# Altium schematic symbol library Real-Time Clocks (RTCs).SchLib: 548 symbols (part 2 of 13)
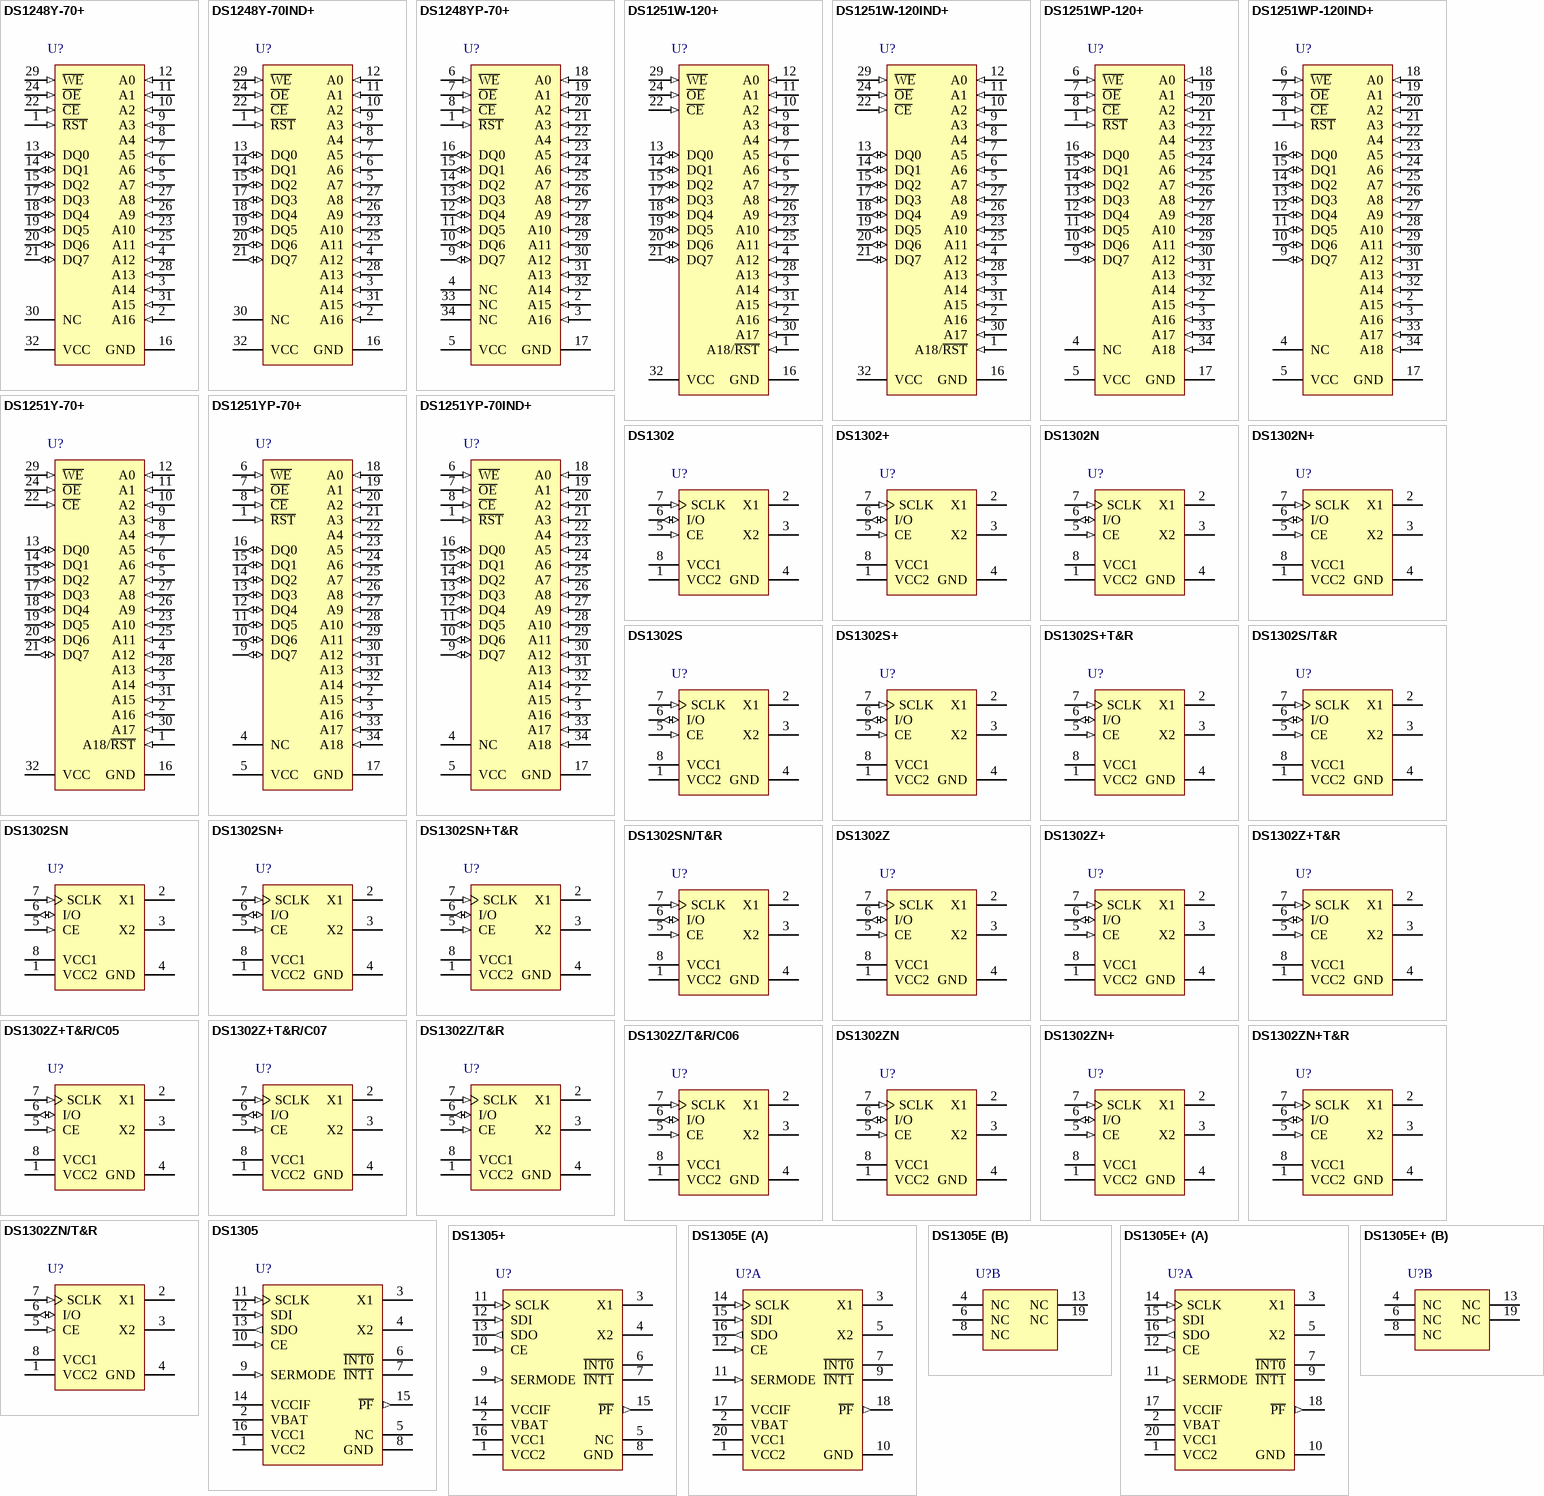
[diagram p22: symbols DS1248Y-70+ to DS1305E+]

## DS1302Z+T&R/C07
designator U?
Trickle-Charge Timekeeping Chip, 8-Pin SO, 0 to 70 degC, Pb-Free, Reel; DatasheetVersion: 12-Feb-2008; PackageVersion: revC, 2010; PackageReference: S8+2; PackageDescription: 8-Pin Small-Outline IC, Narrow (0.15in), 1.27 mm Pitch, SOIC (N), Pb-Free; Code_JEDEC: MS-012-AA; Code_IPC: SOIC127P600-8; ComponentLink1Description: Manufacturer URL; ComponentLink1URL: http://www.maxim-ic.com; ComponentLink2Description: Datasheet; ComponentLink2URL: http://datasheets.maxim-ic.com/en/ds/DS1302.pdf; ComponentLink3Description: Package Specification; ComponentLink3URL: http://pdfserv.maxim-ic.com/package_dwgs/21-0041.PDF
footprint S8+2_N (SOIC, 8-Leads, Body 4.9x3.9mm, Pitch 1.27mm, IPC Medium Density)
footprint S8+2_L (SOIC, 8-Leads, Body 4.9x3.9mm, Pitch 1.27mm, IPC High Density)
footprint S8+2_M (SOIC, 8-Leads, Body 4.9x3.9mm, Pitch 1.27mm, IPC Low Density)
pins: 1 VCC2 (power), 2 X1, 3 X2, 4 GND (power), 5 CE (in), 6 I/O (io), 7 SCLK (in), 8 VCC1 (power)

## DS1302Z/T&R
designator U?
Trickle-Charge Timekeeping Chip, 8-Pin SO, 0 to 70 degC, Reel; DatasheetVersion: 12-Feb-2008; PackageVersion: revC, 2010; PackageReference: S8-2; PackageDescription: 8-Pin Small-Outline IC, Narrow (0.15in), 1.27 mm Pitch, SOIC (N); Code_JEDEC: MS-012-AA; Code_IPC: SOIC127P600-8; ComponentLink1Description: Manufacturer URL; ComponentLink1URL: http://www.maxim-ic.com; ComponentLink2Description: Datasheet; ComponentLink2URL: http://datasheets.maxim-ic.com/en/ds/DS1302.pdf; ComponentLink3Description: Package Specification; ComponentLink3URL: http://pdfserv.maxim-ic.com/package_dwgs/21-0041.PDF
footprint S8-2_N (SOIC, 8-Leads, Body 4.9x3.9mm, Pitch 1.27mm, IPC Medium Density)
footprint S8-2_L (SOIC, 8-Leads, Body 4.9x3.9mm, Pitch 1.27mm, IPC High Density)
footprint S8-2_M (SOIC, 8-Leads, Body 4.9x3.9mm, Pitch 1.27mm, IPC Low Density)
pins: 1 VCC2 (power), 2 X1, 3 X2, 4 GND (power), 5 CE (in), 6 I/O (io), 7 SCLK (in), 8 VCC1 (power)

## DS1302Z/T&R/C06
designator U?
Trickle-Charge Timekeeping Chip, 8-Pin SO, 0 to 70 degC, Reel; DatasheetVersion: 12-Feb-2008; PackageVersion: revC, 2010; PackageReference: S8-2; PackageDescription: 8-Pin Small-Outline IC, Narrow (0.15in), 1.27 mm Pitch, SOIC (N); Code_JEDEC: MS-012-AA; Code_IPC: SOIC127P600-8; ComponentLink1Description: Manufacturer URL; ComponentLink1URL: http://www.maxim-ic.com; ComponentLink2Description: Datasheet; ComponentLink2URL: http://datasheets.maxim-ic.com/en/ds/DS1302.pdf; ComponentLink3Description: Package Specification; ComponentLink3URL: http://pdfserv.maxim-ic.com/package_dwgs/21-0041.PDF
footprint S8-2_N (SOIC, 8-Leads, Body 4.9x3.9mm, Pitch 1.27mm, IPC Medium Density)
footprint S8-2_L (SOIC, 8-Leads, Body 4.9x3.9mm, Pitch 1.27mm, IPC High Density)
footprint S8-2_M (SOIC, 8-Leads, Body 4.9x3.9mm, Pitch 1.27mm, IPC Low Density)
pins: 1 VCC2 (power), 2 X1, 3 X2, 4 GND (power), 5 CE (in), 6 I/O (io), 7 SCLK (in), 8 VCC1 (power)

## DS1302ZN
designator U?
Trickle-Charge Timekeeping Chip, 8-Pin SO, -40 to 85 degC; DatasheetVersion: 12-Feb-2008; PackageVersion: revC, 2010; PackageReference: S8-2; PackageDescription: 8-Pin Small-Outline IC, Narrow (0.15in), 1.27 mm Pitch, SOIC (N); Code_JEDEC: MS-012-AA; Code_IPC: SOIC127P600-8; ComponentLink1Description: Manufacturer URL; ComponentLink1URL: http://www.maxim-ic.com; ComponentLink2Description: Datasheet; ComponentLink2URL: http://datasheets.maxim-ic.com/en/ds/DS1302.pdf; ComponentLink3Description: Package Specification; ComponentLink3URL: http://pdfserv.maxim-ic.com/package_dwgs/21-0041.PDF
footprint S8-2_N (SOIC, 8-Leads, Body 4.9x3.9mm, Pitch 1.27mm, IPC Medium Density)
footprint S8-2_L (SOIC, 8-Leads, Body 4.9x3.9mm, Pitch 1.27mm, IPC High Density)
footprint S8-2_M (SOIC, 8-Leads, Body 4.9x3.9mm, Pitch 1.27mm, IPC Low Density)
pins: 1 VCC2 (power), 2 X1, 3 X2, 4 GND (power), 5 CE (in), 6 I/O (io), 7 SCLK (in), 8 VCC1 (power)

## DS1302ZN+
designator U?
Trickle-Charge Timekeeping Chip, 8-Pin SO, -40 to 85 degC, Pb-Free; DatasheetVersion: 12-Feb-2008; PackageVersion: revC, 2010; PackageReference: S8+2; PackageDescription: 8-Pin Small-Outline IC, Narrow (0.15in), 1.27 mm Pitch, SOIC (N), Pb-Free; Code_JEDEC: MS-012-AA; Code_IPC: SOIC127P600-8; ComponentLink1Description: Manufacturer URL; ComponentLink1URL: http://www.maxim-ic.com; ComponentLink2Description: Datasheet; ComponentLink2URL: http://datasheets.maxim-ic.com/en/ds/DS1302.pdf; ComponentLink3Description: Package Specification; ComponentLink3URL: http://pdfserv.maxim-ic.com/package_dwgs/21-0041.PDF
footprint S8+2_N (SOIC, 8-Leads, Body 4.9x3.9mm, Pitch 1.27mm, IPC Medium Density)
footprint S8+2_L (SOIC, 8-Leads, Body 4.9x3.9mm, Pitch 1.27mm, IPC High Density)
footprint S8+2_M (SOIC, 8-Leads, Body 4.9x3.9mm, Pitch 1.27mm, IPC Low Density)
pins: 1 VCC2 (power), 2 X1, 3 X2, 4 GND (power), 5 CE (in), 6 I/O (io), 7 SCLK (in), 8 VCC1 (power)

## DS1302ZN+T&R
designator U?
Trickle-Charge Timekeeping Chip, 8-Pin SO, -40 to 85 degC, Pb-Free, Reel; DatasheetVersion: 12-Feb-2008; PackageVersion: revC, 2010; PackageReference: S8+2; PackageDescription: 8-Pin Small-Outline IC, Narrow (0.15in), 1.27 mm Pitch, SOIC (N), Pb-Free; Code_JEDEC: MS-012-AA; Code_IPC: SOIC127P600-8; ComponentLink1Description: Manufacturer URL; ComponentLink1URL: http://www.maxim-ic.com; ComponentLink2Description: Datasheet; ComponentLink2URL: http://datasheets.maxim-ic.com/en/ds/DS1302.pdf; ComponentLink3Description: Package Specification; ComponentLink3URL: http://pdfserv.maxim-ic.com/package_dwgs/21-0041.PDF
footprint S8+2_N (SOIC, 8-Leads, Body 4.9x3.9mm, Pitch 1.27mm, IPC Medium Density)
footprint S8+2_L (SOIC, 8-Leads, Body 4.9x3.9mm, Pitch 1.27mm, IPC High Density)
footprint S8+2_M (SOIC, 8-Leads, Body 4.9x3.9mm, Pitch 1.27mm, IPC Low Density)
pins: 1 VCC2 (power), 2 X1, 3 X2, 4 GND (power), 5 CE (in), 6 I/O (io), 7 SCLK (in), 8 VCC1 (power)

## DS1302ZN/T&R
designator U?
Trickle-Charge Timekeeping Chip, 8-Pin SO, -40 to 85 degC, Reel; DatasheetVersion: 12-Feb-2008; PackageVersion: revC, 2010; PackageReference: S8-2; PackageDescription: 8-Pin Small-Outline IC, Narrow (0.15in), 1.27 mm Pitch, SOIC (N); Code_JEDEC: MS-012-AA; Code_IPC: SOIC127P600-8; ComponentLink1Description: Manufacturer URL; ComponentLink1URL: http://www.maxim-ic.com; ComponentLink2Description: Datasheet; ComponentLink2URL: http://datasheets.maxim-ic.com/en/ds/DS1302.pdf; ComponentLink3Description: Package Specification; ComponentLink3URL: http://pdfserv.maxim-ic.com/package_dwgs/21-0041.PDF
footprint S8-2_N (SOIC, 8-Leads, Body 4.9x3.9mm, Pitch 1.27mm, IPC Medium Density)
footprint S8-2_L (SOIC, 8-Leads, Body 4.9x3.9mm, Pitch 1.27mm, IPC High Density)
footprint S8-2_M (SOIC, 8-Leads, Body 4.9x3.9mm, Pitch 1.27mm, IPC Low Density)
pins: 1 VCC2 (power), 2 X1, 3 X2, 4 GND (power), 5 CE (in), 6 I/O (io), 7 SCLK (in), 8 VCC1 (power)

## DS1305
designator U?
Serial Alarm Real-Time Clock, 16-Pin PDIP, 0 to 70 degC; DatasheetVersion: Dec-2009; PackageVersion: revE, 2011; PackageReference: P16-1; PackageDescription: 16-Pin Plastic Dual-In-Line, Narrow (0.3in), Pitch 2.54 mm, PDIP(N); Code_JEDEC: MS-001-AA; ComponentLink1Description: Manufacturer URL; ComponentLink1URL: http://www.maxim-ic.com; ComponentLink2Description: Datasheet; ComponentLink2URL: http://datasheets.maxim-ic.com/en/ds/DS1305.pdf; ComponentLink3Description: Package Specification; ComponentLink3URL: http://pdfserv.maxim-ic.com/package_dwgs/21-0043.PDF
footprint P16-1 (DIP, 16-Leads, Row Spacing 7.62mm, Pitch 2.54mm, Body 19.2x7mm)
pins: 1 VCC2 (power), 2 VBAT (power), 3 X1, 4 X2, 5 NC, 6 ~{INT0} (oc), 7 ~{INT1} (oc), 8 GND (power), 9 SERMODE (in), 10 CE (in), 11 SCLK (in), 12 SDI (in), 13 SDO (out), 14 VCCIF (power), 15 ~{PF} (out), 16 VCC1 (power)

## DS1305+
designator U?
Serial Alarm Real-Time Clock, 16-Pin PDIP, 0 to 70 degC, Pb-Free; DatasheetVersion: Dec-2009; PackageVersion: revE, 2011; PackageReference: P16+1; PackageDescription: 16-Pin Plastic Dual-In-Line, Narrow (0.3in), Pitch 2.54 mm, PDIP(N), Pb-Free; Code_JEDEC: MS-001-AA; ComponentLink1Description: Manufacturer URL; ComponentLink1URL: http://www.maxim-ic.com; ComponentLink2Description: Datasheet; ComponentLink2URL: http://datasheets.maxim-ic.com/en/ds/DS1305.pdf; ComponentLink3Description: Package Specification; ComponentLink3URL: http://pdfserv.maxim-ic.com/package_dwgs/21-0043.PDF
footprint P16+1 (DIP, 16-Leads, Row Spacing 7.62mm, Pitch 2.54mm, Body 19.2x7mm)
pins: 1 VCC2 (power), 2 VBAT (power), 3 X1, 4 X2, 5 NC, 6 ~{INT0} (oc), 7 ~{INT1} (oc), 8 GND (power), 9 SERMODE (in), 10 CE (in), 11 SCLK (in), 12 SDI (in), 13 SDO (out), 14 VCCIF (power), 15 ~{PF} (out), 16 VCC1 (power)

## DS1305E
designator U?
Serial Alarm Real-Time Clock, 20-Pin TSSOP, 0 to 70 degC; DatasheetVersion: Dec-2009; PackageVersion: revL, 2010; PackageReference: U20-1; PackageDescription: 20-Pin Thin Shrink Small-Outline Package, 4.4 mm Body, TSSOP; Code_JEDEC: MO-153-AC; ComponentLink1Description: Manufacturer URL; ComponentLink1URL: http://www.maxim-ic.com; ComponentLink2Description: Datasheet; ComponentLink2URL: http://datasheets.maxim-ic.com/en/ds/DS1305.pdf; ComponentLink3Description: Package Specification; ComponentLink3URL: http://pdfserv.maxim-ic.com/package_dwgs/21-0066.PDF
footprint U20-1_N (TSOP, 20-Leads, Body 6.5x4.4mm, Pitch 0.65mm, IPC Medium Density)
footprint U20-1_L (TSOP, 20-Leads, Body 6.5x4.4mm, Pitch 0.65mm, IPC High Density)
footprint U20-1_M (TSOP, 20-Leads, Body 6.5x4.4mm, Pitch 0.65mm, IPC Low Density)
part A pins: 1 VCC2 (power), 2 VBAT (power), 3 X1, 5 X2, 7 ~{INT0} (oc), 9 ~{INT1} (oc), 10 GND (power), 11 SERMODE (in), 12 CE (in), 14 SCLK (in), 15 SDI (in), 16 SDO (out), 17 VCCIF (power), 18 ~{PF} (out), 20 VCC1 (power)
part B pins: 4 NC, 6 NC, 8 NC, 13 NC, 19 NC

## DS1305E+
designator U?
Serial Alarm Real-Time Clock, 20-Pin TSSOP, 0 to 70 degC, Pb-Free; DatasheetVersion: Dec-2009; PackageVersion: revL, 2010; PackageReference: U20+1; PackageDescription: 20-Pin Thin Shrink Small-Outline Package, 4.4 mm Body, TSSOP, Pb-Free; Code_JEDEC: MO-153-AC; ComponentLink1Description: Manufacturer URL; ComponentLink1URL: http://www.maxim-ic.com; ComponentLink2Description: Datasheet; ComponentLink2URL: http://datasheets.maxim-ic.com/en/ds/DS1305.pdf; ComponentLink3Description: Package Specification; ComponentLink3URL: http://pdfserv.maxim-ic.com/package_dwgs/21-0066.PDF
footprint U20+1_N (TSOP, 20-Leads, Body 6.5x4.4mm, Pitch 0.65mm, IPC Medium Density)
footprint U20+1_L (TSOP, 20-Leads, Body 6.5x4.4mm, Pitch 0.65mm, IPC High Density)
footprint U20+1_M (TSOP, 20-Leads, Body 6.5x4.4mm, Pitch 0.65mm, IPC Low Density)
part A pins: 1 VCC2 (power), 2 VBAT (power), 3 X1, 5 X2, 7 ~{INT0} (oc), 9 ~{INT1} (oc), 10 GND (power), 11 SERMODE (in), 12 CE (in), 14 SCLK (in), 15 SDI (in), 16 SDO (out), 17 VCCIF (power), 18 ~{PF} (out), 20 VCC1 (power)
part B pins: 4 NC, 6 NC, 8 NC, 13 NC, 19 NC

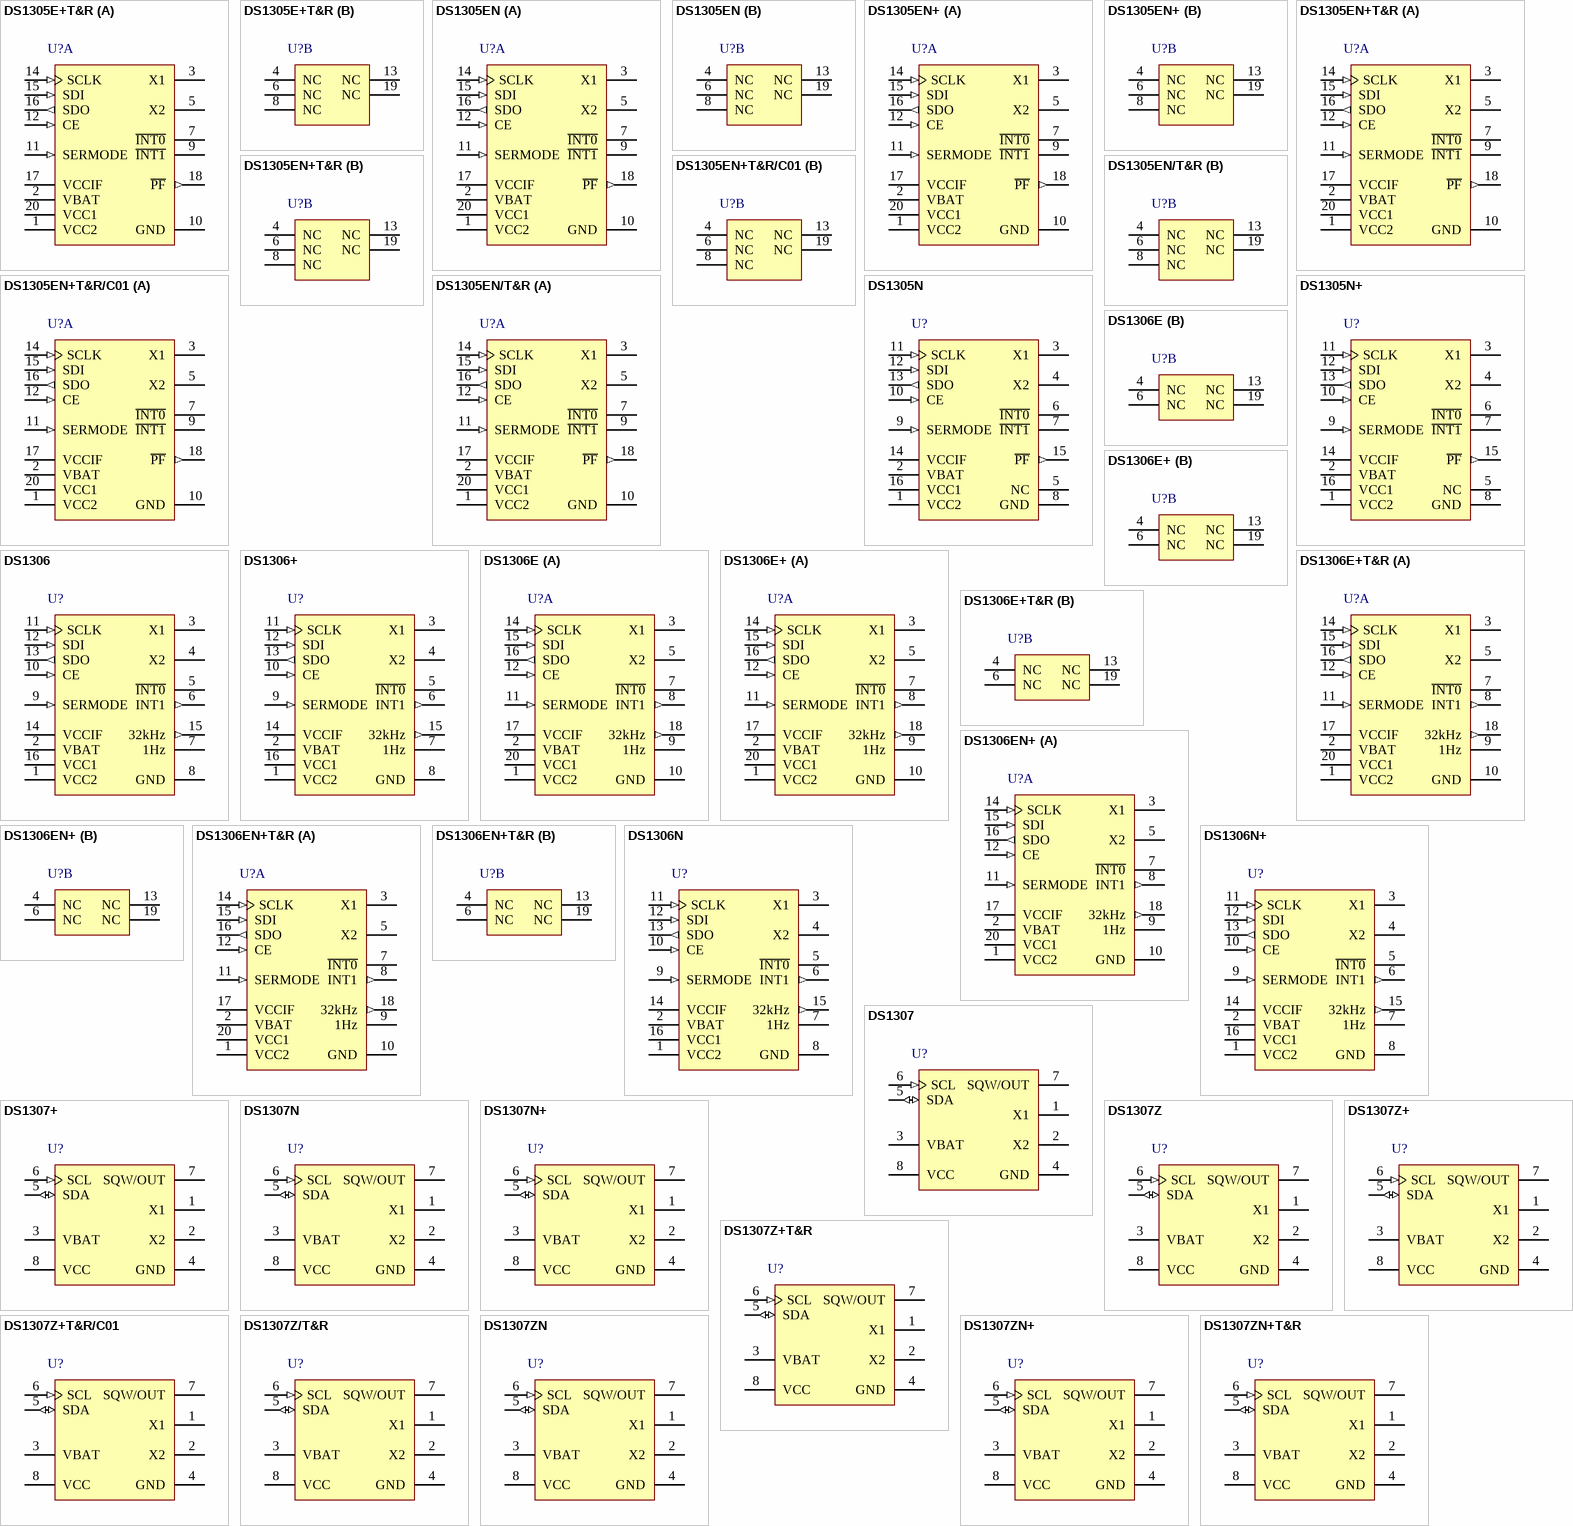
[diagram p2: symbols DS1305E+T&R to DS1307ZN+T&R]

## DS1305E+T&R
designator U?
Serial Alarm Real-Time Clock, 20-Pin TSSOP, 0 to 70 degC, Pb-Free, Reel; DatasheetVersion: Dec-2009; PackageVersion: revL, 2010; PackageReference: U20+1; PackageDescription: 20-Pin Thin Shrink Small-Outline Package, 4.4 mm Body, TSSOP, Pb-Free; Code_JEDEC: MO-153-AC; ComponentLink1Description: Manufacturer URL; ComponentLink1URL: http://www.maxim-ic.com; ComponentLink2Description: Datasheet; ComponentLink2URL: http://datasheets.maxim-ic.com/en/ds/DS1305.pdf; ComponentLink3Description: Package Specification; ComponentLink3URL: http://pdfserv.maxim-ic.com/package_dwgs/21-0066.PDF
footprint U20+1_N (TSOP, 20-Leads, Body 6.5x4.4mm, Pitch 0.65mm, IPC Medium Density)
footprint U20+1_L (TSOP, 20-Leads, Body 6.5x4.4mm, Pitch 0.65mm, IPC High Density)
footprint U20+1_M (TSOP, 20-Leads, Body 6.5x4.4mm, Pitch 0.65mm, IPC Low Density)
part A pins: 1 VCC2 (power), 2 VBAT (power), 3 X1, 5 X2, 7 ~{INT0} (oc), 9 ~{INT1} (oc), 10 GND (power), 11 SERMODE (in), 12 CE (in), 14 SCLK (in), 15 SDI (in), 16 SDO (out), 17 VCCIF (power), 18 ~{PF} (out), 20 VCC1 (power)
part B pins: 4 NC, 6 NC, 8 NC, 13 NC, 19 NC

## DS1305EN
designator U?
Serial Alarm Real-Time Clock, 20-Pin TSSOP, -40 to 85 degC; DatasheetVersion: Dec-2009; PackageVersion: revL, 2010; PackageReference: U20-1; PackageDescription: 20-Pin Thin Shrink Small-Outline Package, 4.4 mm Body, TSSOP; Code_JEDEC: MO-153-AC; ComponentLink1Description: Manufacturer URL; ComponentLink1URL: http://www.maxim-ic.com; ComponentLink2Description: Datasheet; ComponentLink2URL: http://datasheets.maxim-ic.com/en/ds/DS1305.pdf; ComponentLink3Description: Package Specification; ComponentLink3URL: http://pdfserv.maxim-ic.com/package_dwgs/21-0066.PDF
footprint U20-1_N (TSOP, 20-Leads, Body 6.5x4.4mm, Pitch 0.65mm, IPC Medium Density)
footprint U20-1_L (TSOP, 20-Leads, Body 6.5x4.4mm, Pitch 0.65mm, IPC High Density)
footprint U20-1_M (TSOP, 20-Leads, Body 6.5x4.4mm, Pitch 0.65mm, IPC Low Density)
part A pins: 1 VCC2 (power), 2 VBAT (power), 3 X1, 5 X2, 7 ~{INT0} (oc), 9 ~{INT1} (oc), 10 GND (power), 11 SERMODE (in), 12 CE (in), 14 SCLK (in), 15 SDI (in), 16 SDO (out), 17 VCCIF (power), 18 ~{PF} (out), 20 VCC1 (power)
part B pins: 4 NC, 6 NC, 8 NC, 13 NC, 19 NC

## DS1305EN+
designator U?
Serial Alarm Real-Time Clock, 20-Pin TSSOP, -40 to 85 degC, Pb-Free; DatasheetVersion: Dec-2009; PackageVersion: revL, 2010; PackageReference: U20+1; PackageDescription: 20-Pin Thin Shrink Small-Outline Package, 4.4 mm Body, TSSOP, Pb-Free; Code_JEDEC: MO-153-AC; ComponentLink1Description: Manufacturer URL; ComponentLink1URL: http://www.maxim-ic.com; ComponentLink2Description: Datasheet; ComponentLink2URL: http://datasheets.maxim-ic.com/en/ds/DS1305.pdf; ComponentLink3Description: Package Specification; ComponentLink3URL: http://pdfserv.maxim-ic.com/package_dwgs/21-0066.PDF
footprint U20+1_N (TSOP, 20-Leads, Body 6.5x4.4mm, Pitch 0.65mm, IPC Medium Density)
footprint U20+1_L (TSOP, 20-Leads, Body 6.5x4.4mm, Pitch 0.65mm, IPC High Density)
footprint U20+1_M (TSOP, 20-Leads, Body 6.5x4.4mm, Pitch 0.65mm, IPC Low Density)
part A pins: 1 VCC2 (power), 2 VBAT (power), 3 X1, 5 X2, 7 ~{INT0} (oc), 9 ~{INT1} (oc), 10 GND (power), 11 SERMODE (in), 12 CE (in), 14 SCLK (in), 15 SDI (in), 16 SDO (out), 17 VCCIF (power), 18 ~{PF} (out), 20 VCC1 (power)
part B pins: 4 NC, 6 NC, 8 NC, 13 NC, 19 NC

## DS1305EN+T&R
designator U?
Serial Alarm Real-Time Clock, 20-Pin TSSOP, -40 to 85 degC, Pb-Free, Reel; DatasheetVersion: Dec-2009; PackageVersion: revL, 2010; PackageReference: U20+1; PackageDescription: 20-Pin Thin Shrink Small-Outline Package, 4.4 mm Body, TSSOP, Pb-Free; Code_JEDEC: MO-153-AC; ComponentLink1Description: Manufacturer URL; ComponentLink1URL: http://www.maxim-ic.com; ComponentLink2Description: Datasheet; ComponentLink2URL: http://datasheets.maxim-ic.com/en/ds/DS1305.pdf; ComponentLink3Description: Package Specification; ComponentLink3URL: http://pdfserv.maxim-ic.com/package_dwgs/21-0066.PDF
footprint U20+1_N (TSOP, 20-Leads, Body 6.5x4.4mm, Pitch 0.65mm, IPC Medium Density)
footprint U20+1_L (TSOP, 20-Leads, Body 6.5x4.4mm, Pitch 0.65mm, IPC High Density)
footprint U20+1_M (TSOP, 20-Leads, Body 6.5x4.4mm, Pitch 0.65mm, IPC Low Density)
part A pins: 1 VCC2 (power), 2 VBAT (power), 3 X1, 5 X2, 7 ~{INT0} (oc), 9 ~{INT1} (oc), 10 GND (power), 11 SERMODE (in), 12 CE (in), 14 SCLK (in), 15 SDI (in), 16 SDO (out), 17 VCCIF (power), 18 ~{PF} (out), 20 VCC1 (power)
part B pins: 4 NC, 6 NC, 8 NC, 13 NC, 19 NC

## DS1305EN+T&R/C01
designator U?
Serial Alarm Real-Time Clock, 20-Pin TSSOP, -40 to 85 degC, Pb-Free, Reel; DatasheetVersion: Dec-2009; PackageVersion: revL, 2010; PackageReference: U20+1; PackageDescription: 20-Pin Thin Shrink Small-Outline Package, 4.4 mm Body, TSSOP, Pb-Free; Code_JEDEC: MO-153-AC; ComponentLink1Description: Manufacturer URL; ComponentLink1URL: http://www.maxim-ic.com; ComponentLink2Description: Datasheet; ComponentLink2URL: http://datasheets.maxim-ic.com/en/ds/DS1305.pdf; ComponentLink3Description: Package Specification; ComponentLink3URL: http://pdfserv.maxim-ic.com/package_dwgs/21-0066.PDF
footprint U20+1_N (TSOP, 20-Leads, Body 6.5x4.4mm, Pitch 0.65mm, IPC Medium Density)
footprint U20+1_L (TSOP, 20-Leads, Body 6.5x4.4mm, Pitch 0.65mm, IPC High Density)
footprint U20+1_M (TSOP, 20-Leads, Body 6.5x4.4mm, Pitch 0.65mm, IPC Low Density)
part A pins: 1 VCC2 (power), 2 VBAT (power), 3 X1, 5 X2, 7 ~{INT0} (oc), 9 ~{INT1} (oc), 10 GND (power), 11 SERMODE (in), 12 CE (in), 14 SCLK (in), 15 SDI (in), 16 SDO (out), 17 VCCIF (power), 18 ~{PF} (out), 20 VCC1 (power)
part B pins: 4 NC, 6 NC, 8 NC, 13 NC, 19 NC

## DS1305EN/T&R
designator U?
Serial Alarm Real-Time Clock, 20-Pin TSSOP, -40 to 85 degC, Reel; DatasheetVersion: Dec-2009; PackageVersion: revL, 2010; PackageReference: U20-1; PackageDescription: 20-Pin Thin Shrink Small-Outline Package, 4.4 mm Body, TSSOP; Code_JEDEC: MO-153-AC; ComponentLink1Description: Manufacturer URL; ComponentLink1URL: http://www.maxim-ic.com; ComponentLink2Description: Datasheet; ComponentLink2URL: http://datasheets.maxim-ic.com/en/ds/DS1305.pdf; ComponentLink3Description: Package Specification; ComponentLink3URL: http://pdfserv.maxim-ic.com/package_dwgs/21-0066.PDF
footprint U20-1_N (TSOP, 20-Leads, Body 6.5x4.4mm, Pitch 0.65mm, IPC Medium Density)
footprint U20-1_L (TSOP, 20-Leads, Body 6.5x4.4mm, Pitch 0.65mm, IPC High Density)
footprint U20-1_M (TSOP, 20-Leads, Body 6.5x4.4mm, Pitch 0.65mm, IPC Low Density)
part A pins: 1 VCC2 (power), 2 VBAT (power), 3 X1, 5 X2, 7 ~{INT0} (oc), 9 ~{INT1} (oc), 10 GND (power), 11 SERMODE (in), 12 CE (in), 14 SCLK (in), 15 SDI (in), 16 SDO (out), 17 VCCIF (power), 18 ~{PF} (out), 20 VCC1 (power)
part B pins: 4 NC, 6 NC, 8 NC, 13 NC, 19 NC

## DS1305N
designator U?
Serial Alarm Real-Time Clock, 16-Pin PDIP, -40 to 85 degC; DatasheetVersion: Dec-2009; PackageVersion: revE, 2011; PackageReference: P16-1; PackageDescription: 16-Pin Plastic Dual-In-Line, Narrow (0.3in), Pitch 2.54 mm, PDIP(N); Code_JEDEC: MS-001-AA; ComponentLink1Description: Manufacturer URL; ComponentLink1URL: http://www.maxim-ic.com; ComponentLink2Description: Datasheet; ComponentLink2URL: http://datasheets.maxim-ic.com/en/ds/DS1305.pdf; ComponentLink3Description: Package Specification; ComponentLink3URL: http://pdfserv.maxim-ic.com/package_dwgs/21-0043.PDF
footprint P16-1 (DIP, 16-Leads, Row Spacing 7.62mm, Pitch 2.54mm, Body 19.2x7mm)
pins: 1 VCC2 (power), 2 VBAT (power), 3 X1, 4 X2, 5 NC, 6 ~{INT0} (oc), 7 ~{INT1} (oc), 8 GND (power), 9 SERMODE (in), 10 CE (in), 11 SCLK (in), 12 SDI (in), 13 SDO (out), 14 VCCIF (power), 15 ~{PF} (out), 16 VCC1 (power)

## DS1305N+
designator U?
Serial Alarm Real-Time Clock, 16-Pin PDIP, -40 to 85 degC, Pb-Free; DatasheetVersion: Dec-2009; PackageVersion: revE, 2011; PackageReference: P16+1; PackageDescription: 16-Pin Plastic Dual-In-Line, Narrow (0.3in), Pitch 2.54 mm, PDIP(N), Pb-Free; Code_JEDEC: MS-001-AA; ComponentLink1Description: Manufacturer URL; ComponentLink1URL: http://www.maxim-ic.com; ComponentLink2Description: Datasheet; ComponentLink2URL: http://datasheets.maxim-ic.com/en/ds/DS1305.pdf; ComponentLink3Description: Package Specification; ComponentLink3URL: http://pdfserv.maxim-ic.com/package_dwgs/21-0043.PDF
footprint P16+1 (DIP, 16-Leads, Row Spacing 7.62mm, Pitch 2.54mm, Body 19.2x7mm)
pins: 1 VCC2 (power), 2 VBAT (power), 3 X1, 4 X2, 5 NC, 6 ~{INT0} (oc), 7 ~{INT1} (oc), 8 GND (power), 9 SERMODE (in), 10 CE (in), 11 SCLK (in), 12 SDI (in), 13 SDO (out), 14 VCCIF (power), 15 ~{PF} (out), 16 VCC1 (power)

## DS1306
designator U?
Serial Alarm Real-Time Clock, 16-Pin PDIP, 0 to 70 degC; DatasheetVersion: Dec-2009; PackageVersion: revE, 2011; PackageReference: P16-2; PackageDescription: 16-Pin Plastic Dual-In-Line, Narrow (0.3in), Pitch 2.54 mm, PDIP(N); Code_JEDEC: MS-001-AA; ComponentLink1Description: Manufacturer URL; ComponentLink1URL: http://www.maxim-ic.com; ComponentLink2Description: Datasheet; ComponentLink2URL: http://datasheets.maxim-ic.com/en/ds/DS1306.pdf; ComponentLink3Description: Package Specification; ComponentLink3URL: http://pdfserv.maxim-ic.com/package_dwgs/21-0043.PDF
footprint P16-2 (DIP, 16-Leads, Row Spacing 7.62mm, Pitch 2.54mm, Body 19.2x7mm)
pins: 1 VCC2 (power), 2 VBAT (power), 3 X1, 4 X2, 5 ~{INT0} (oc), 6 INT1 (out), 7 1Hz (oc), 8 GND (power), 9 SERMODE (in), 10 CE (in), 11 SCLK (in), 12 SDI (in), 13 SDO (out), 14 VCCIF (power), 15 32kHz (out), 16 VCC1 (power)

## DS1306+
designator U?
Serial Alarm Real-Time Clock, 16-Pin PDIP, 0 to 70 degC, Pb-Free; DatasheetVersion: Dec-2009; PackageVersion: revE, 2011; PackageReference: P16+1; PackageDescription: 16-Pin Plastic Dual-In-Line, Narrow (0.3in), Pitch 2.54 mm, PDIP(N), Pb-Free; Code_JEDEC: MS-001-AA; ComponentLink1Description: Manufacturer URL; ComponentLink1URL: http://www.maxim-ic.com; ComponentLink2Description: Datasheet; ComponentLink2URL: http://datasheets.maxim-ic.com/en/ds/DS1306.pdf; ComponentLink3Description: Package Specification; ComponentLink3URL: http://pdfserv.maxim-ic.com/package_dwgs/21-0043.PDF
footprint P16+1 (DIP, 16-Leads, Row Spacing 7.62mm, Pitch 2.54mm, Body 19.2x7mm)
pins: 1 VCC2 (power), 2 VBAT (power), 3 X1, 4 X2, 5 ~{INT0} (oc), 6 INT1 (out), 7 1Hz (oc), 8 GND (power), 9 SERMODE (in), 10 CE (in), 11 SCLK (in), 12 SDI (in), 13 SDO (out), 14 VCCIF (power), 15 32kHz (out), 16 VCC1 (power)

## DS1306E
designator U?
Serial Alarm Real-Time Clock, 20-Pin TSSOP, 0 to 70 degC; DatasheetVersion: Dec-2009; PackageVersion: revL, 2010; PackageReference: U20-1; PackageDescription: 20-Pin Thin Shrink Small-Outline Package, 4.4 mm Body, TSSOP; Code_JEDEC: MO-153-AC; ComponentLink1Description: Manufacturer URL; ComponentLink1URL: http://www.maxim-ic.com; ComponentLink2Description: Datasheet; ComponentLink2URL: http://datasheets.maxim-ic.com/en/ds/DS1306.pdf; ComponentLink3Description: Package Specification; ComponentLink3URL: http://pdfserv.maxim-ic.com/package_dwgs/21-0066.PDF
footprint U20-1_N (TSOP, 20-Leads, Body 6.5x4.4mm, Pitch 0.65mm, IPC Medium Density)
footprint U20-1_L (TSOP, 20-Leads, Body 6.5x4.4mm, Pitch 0.65mm, IPC High Density)
footprint U20-1_M (TSOP, 20-Leads, Body 6.5x4.4mm, Pitch 0.65mm, IPC Low Density)
part A pins: 1 VCC2 (power), 2 VBAT (power), 3 X1, 5 X2, 7 ~{INT0} (oc), 8 INT1 (out), 9 1Hz (oc), 10 GND (power), 11 SERMODE (in), 12 CE (in), 14 SCLK (in), 15 SDI (in), 16 SDO (out), 17 VCCIF (power), 18 32kHz (out), 20 VCC1 (power)
part B pins: 4 NC, 6 NC, 13 NC, 19 NC

## DS1306E+
designator U?
Serial Alarm Real-Time Clock, 20-Pin TSSOP, 0 to 70 degC, Pb-Free; DatasheetVersion: Dec-2009; PackageVersion: revL, 2010; PackageReference: U20+3; PackageDescription: 20-Pin Thin Shrink Small-Outline Package, 4.4 mm Body, TSSOP, Pb-Free; Code_JEDEC: MO-153-AC; ComponentLink1Description: Manufacturer URL; ComponentLink1URL: http://www.maxim-ic.com; ComponentLink2Description: Datasheet; ComponentLink2URL: http://datasheets.maxim-ic.com/en/ds/DS1306.pdf; ComponentLink3Description: Package Specification; ComponentLink3URL: http://pdfserv.maxim-ic.com/package_dwgs/21-0066.PDF
footprint U20+3_N (TSOP, 20-Leads, Body 6.5x4.4mm, Pitch 0.65mm, IPC Medium Density)
footprint U20+3_L (TSOP, 20-Leads, Body 6.5x4.4mm, Pitch 0.65mm, IPC High Density)
footprint U20+3_M (TSOP, 20-Leads, Body 6.5x4.4mm, Pitch 0.65mm, IPC Low Density)
part A pins: 1 VCC2 (power), 2 VBAT (power), 3 X1, 5 X2, 7 ~{INT0} (oc), 8 INT1 (out), 9 1Hz (oc), 10 GND (power), 11 SERMODE (in), 12 CE (in), 14 SCLK (in), 15 SDI (in), 16 SDO (out), 17 VCCIF (power), 18 32kHz (out), 20 VCC1 (power)
part B pins: 4 NC, 6 NC, 13 NC, 19 NC

## DS1306E+T&R
designator U?
Serial Alarm Real-Time Clock, 20-Pin TSSOP, 0 to 70 degC, Pb-Free, Reel; DatasheetVersion: Dec-2009; PackageVersion: revL, 2010; PackageReference: U20+3; PackageDescription: 20-Pin Thin Shrink Small-Outline Package, 4.4 mm Body, TSSOP, Pb-Free; Code_JEDEC: MO-153-AC; ComponentLink1Description: Manufacturer URL; ComponentLink1URL: http://www.maxim-ic.com; ComponentLink2Description: Datasheet; ComponentLink2URL: http://datasheets.maxim-ic.com/en/ds/DS1306.pdf; ComponentLink3Description: Package Specification; ComponentLink3URL: http://pdfserv.maxim-ic.com/package_dwgs/21-0066.PDF
footprint U20+3_N (TSOP, 20-Leads, Body 6.5x4.4mm, Pitch 0.65mm, IPC Medium Density)
footprint U20+3_L (TSOP, 20-Leads, Body 6.5x4.4mm, Pitch 0.65mm, IPC High Density)
footprint U20+3_M (TSOP, 20-Leads, Body 6.5x4.4mm, Pitch 0.65mm, IPC Low Density)
part A pins: 1 VCC2 (power), 2 VBAT (power), 3 X1, 5 X2, 7 ~{INT0} (oc), 8 INT1 (out), 9 1Hz (oc), 10 GND (power), 11 SERMODE (in), 12 CE (in), 14 SCLK (in), 15 SDI (in), 16 SDO (out), 17 VCCIF (power), 18 32kHz (out), 20 VCC1 (power)
part B pins: 4 NC, 6 NC, 13 NC, 19 NC

## DS1306EN+
designator U?
Serial Alarm Real-Time Clock, 20-Pin TSSOP, -40 to 85 degC, Pb-Free; DatasheetVersion: Dec-2009; PackageVersion: revL, 2010; PackageReference: U20+1; PackageDescription: 20-Pin Thin Shrink Small-Outline Package, 4.4 mm Body, TSSOP, Pb-Free; Code_JEDEC: MO-153-AC; ComponentLink1Description: Manufacturer URL; ComponentLink1URL: http://www.maxim-ic.com; ComponentLink2Description: Datasheet; ComponentLink2URL: http://datasheets.maxim-ic.com/en/ds/DS1306.pdf; ComponentLink3Description: Package Specification; ComponentLink3URL: http://pdfserv.maxim-ic.com/package_dwgs/21-0066.PDF
footprint U20+1_N (TSOP, 20-Leads, Body 6.5x4.4mm, Pitch 0.65mm, IPC Medium Density)
footprint U20+1_L (TSOP, 20-Leads, Body 6.5x4.4mm, Pitch 0.65mm, IPC High Density)
footprint U20+1_M (TSOP, 20-Leads, Body 6.5x4.4mm, Pitch 0.65mm, IPC Low Density)
part A pins: 1 VCC2 (power), 2 VBAT (power), 3 X1, 5 X2, 7 ~{INT0} (oc), 8 INT1 (out), 9 1Hz (oc), 10 GND (power), 11 SERMODE (in), 12 CE (in), 14 SCLK (in), 15 SDI (in), 16 SDO (out), 17 VCCIF (power), 18 32kHz (out), 20 VCC1 (power)
part B pins: 4 NC, 6 NC, 13 NC, 19 NC

## DS1306EN+T&R
designator U?
Serial Alarm Real-Time Clock, 20-Pin TSSOP, -40 to 85 degC, Pb-Free, Reel; DatasheetVersion: Dec-2009; PackageVersion: revL, 2010; PackageReference: U20+1; PackageDescription: 20-Pin Thin Shrink Small-Outline Package, 4.4 mm Body, TSSOP, Pb-Free; Code_JEDEC: MO-153-AC; ComponentLink1Description: Manufacturer URL; ComponentLink1URL: http://www.maxim-ic.com; ComponentLink2Description: Datasheet; ComponentLink2URL: http://datasheets.maxim-ic.com/en/ds/DS1306.pdf; ComponentLink3Description: Package Specification; ComponentLink3URL: http://pdfserv.maxim-ic.com/package_dwgs/21-0066.PDF
footprint U20+1_N (TSOP, 20-Leads, Body 6.5x4.4mm, Pitch 0.65mm, IPC Medium Density)
footprint U20+1_L (TSOP, 20-Leads, Body 6.5x4.4mm, Pitch 0.65mm, IPC High Density)
footprint U20+1_M (TSOP, 20-Leads, Body 6.5x4.4mm, Pitch 0.65mm, IPC Low Density)
part A pins: 1 VCC2 (power), 2 VBAT (power), 3 X1, 5 X2, 7 ~{INT0} (oc), 8 INT1 (out), 9 1Hz (oc), 10 GND (power), 11 SERMODE (in), 12 CE (in), 14 SCLK (in), 15 SDI (in), 16 SDO (out), 17 VCCIF (power), 18 32kHz (out), 20 VCC1 (power)
part B pins: 4 NC, 6 NC, 13 NC, 19 NC

## DS1306N
designator U?
Serial Alarm Real-Time Clock, 16-Pin PDIP, -40 to 85 degC; DatasheetVersion: Dec-2009; PackageVersion: revE, 2011; PackageReference: P16-2; PackageDescription: 16-Pin Plastic Dual-In-Line, Narrow (0.3in), Pitch 2.54 mm, PDIP(N); Code_JEDEC: MS-001-AA; ComponentLink1Description: Manufacturer URL; ComponentLink1URL: http://www.maxim-ic.com; ComponentLink2Description: Datasheet; ComponentLink2URL: http://datasheets.maxim-ic.com/en/ds/DS1306.pdf; ComponentLink3Description: Package Specification; ComponentLink3URL: http://pdfserv.maxim-ic.com/package_dwgs/21-0043.PDF
footprint P16-2 (DIP, 16-Leads, Row Spacing 7.62mm, Pitch 2.54mm, Body 19.2x7mm)
pins: 1 VCC2 (power), 2 VBAT (power), 3 X1, 4 X2, 5 ~{INT0} (oc), 6 INT1 (out), 7 1Hz (oc), 8 GND (power), 9 SERMODE (in), 10 CE (in), 11 SCLK (in), 12 SDI (in), 13 SDO (out), 14 VCCIF (power), 15 32kHz (out), 16 VCC1 (power)

## DS1306N+
designator U?
Serial Alarm Real-Time Clock, 16-Pin PDIP, -40 to 85 degC, Pb-Free; DatasheetVersion: Dec-2009; PackageVersion: revE, 2011; PackageReference: P16+1; PackageDescription: 16-Pin Plastic Dual-In-Line, Narrow (0.3in), Pitch 2.54 mm, PDIP(N), Pb-Free; Code_JEDEC: MS-001-AA; ComponentLink1Description: Manufacturer URL; ComponentLink1URL: http://www.maxim-ic.com; ComponentLink2Description: Datasheet; ComponentLink2URL: http://datasheets.maxim-ic.com/en/ds/DS1306.pdf; ComponentLink3Description: Package Specification; ComponentLink3URL: http://pdfserv.maxim-ic.com/package_dwgs/21-0043.PDF
footprint P16+1 (DIP, 16-Leads, Row Spacing 7.62mm, Pitch 2.54mm, Body 19.2x7mm)
pins: 1 VCC2 (power), 2 VBAT (power), 3 X1, 4 X2, 5 ~{INT0} (oc), 6 INT1 (out), 7 1Hz (oc), 8 GND (power), 9 SERMODE (in), 10 CE (in), 11 SCLK (in), 12 SDI (in), 13 SDO (out), 14 VCCIF (power), 15 32kHz (out), 16 VCC1 (power)

## DS1307
designator U?
64 x 8, Serial, I2C Real-Time Clock, 5.0V, 8-Pin PDIP, 0 to 70 degC; DatasheetVersion: 10-Feb-2008; PackageVersion: revE, 2011; PackageReference: P8-2; PackageDescription: 8-Pin Plastic Dual-In-Line, Narrow (0.3in), Pitch 2.54 mm, PDIP(N); Code_JEDEC: MS-001-AB; ComponentLink1Description: Manufacturer URL; ComponentLink1URL: http://www.maxim-ic.com; ComponentLink2Description: Datasheet; ComponentLink2URL: http://datasheets.maxim-ic.com/en/ds/DS1307.pdf; ComponentLink3Description: Package Specification; ComponentLink3URL: http://pdfserv.maxim-ic.com/package_dwgs/21-0043.PDF
footprint P8-2 (DIP, 8-Leads, Row Spacing 7.62mm, Pitch 2.54mm, Body 9.4x7mm)
pins: 1 X1, 2 X2, 3 VBAT (power), 4 GND (power), 5 SDA (io), 6 SCL (in), 7 SQW/OUT (oc), 8 VCC (power)

## DS1307+
designator U?
64 x 8, Serial, I2C Real-Time Clock, 5.0V, 8-Pin PDIP, 0 to 70 degC, Pb-Free; DatasheetVersion: 10-Feb-2008; PackageVersion: revE, 2011; PackageReference: P8+2; PackageDescription: 8-Pin Plastic Dual-In-Line, Narrow (0.3in), Pitch 2.54 mm, PDIP(N), Pb-Free; Code_JEDEC: MS-001-AB; ComponentLink1Description: Manufacturer URL; ComponentLink1URL: http://www.maxim-ic.com; ComponentLink2Description: Datasheet; ComponentLink2URL: http://datasheets.maxim-ic.com/en/ds/DS1307.pdf; ComponentLink3Description: Package Specification; ComponentLink3URL: http://pdfserv.maxim-ic.com/package_dwgs/21-0043.PDF
footprint P8+2 (DIP, 8-Leads, Row Spacing 7.62mm, Pitch 2.54mm, Body 9.4x7mm)
pins: 1 X1, 2 X2, 3 VBAT (power), 4 GND (power), 5 SDA (io), 6 SCL (in), 7 SQW/OUT (oc), 8 VCC (power)

## DS1307N
designator U?
64 x 8, Serial, I2C Real-Time Clock, 5.0V, 8-Pin PDIP, -40 to 85 degC; DatasheetVersion: 10-Feb-2008; PackageVersion: revE, 2011; PackageReference: P8-2; PackageDescription: 8-Pin Plastic Dual-In-Line, Narrow (0.3in), Pitch 2.54 mm, PDIP(N); Code_JEDEC: MS-001-AB; ComponentLink1Description: Manufacturer URL; ComponentLink1URL: http://www.maxim-ic.com; ComponentLink2Description: Datasheet; ComponentLink2URL: http://datasheets.maxim-ic.com/en/ds/DS1307.pdf; ComponentLink3Description: Package Specification; ComponentLink3URL: http://pdfserv.maxim-ic.com/package_dwgs/21-0043.PDF
footprint P8-2 (DIP, 8-Leads, Row Spacing 7.62mm, Pitch 2.54mm, Body 9.4x7mm)
pins: 1 X1, 2 X2, 3 VBAT (power), 4 GND (power), 5 SDA (io), 6 SCL (in), 7 SQW/OUT (oc), 8 VCC (power)

## DS1307N+
designator U?
64 x 8, Serial, I2C Real-Time Clock, 5.0V, 8-Pin PDIP, -40 to 85 degC, Pb-Free; DatasheetVersion: 10-Feb-2008; PackageVersion: revE, 2011; PackageReference: P8+2; PackageDescription: 8-Pin Plastic Dual-In-Line, Narrow (0.3in), Pitch 2.54 mm, PDIP(N), Pb-Free; Code_JEDEC: MS-001-AB; ComponentLink1Description: Manufacturer URL; ComponentLink1URL: http://www.maxim-ic.com; ComponentLink2Description: Datasheet; ComponentLink2URL: http://datasheets.maxim-ic.com/en/ds/DS1307.pdf; ComponentLink3Description: Package Specification; ComponentLink3URL: http://pdfserv.maxim-ic.com/package_dwgs/21-0043.PDF
footprint P8+2 (DIP, 8-Leads, Row Spacing 7.62mm, Pitch 2.54mm, Body 9.4x7mm)
pins: 1 X1, 2 X2, 3 VBAT (power), 4 GND (power), 5 SDA (io), 6 SCL (in), 7 SQW/OUT (oc), 8 VCC (power)

## DS1307Z
designator U?
64 x 8, Serial, I2C Real-Time Clock, 5.0V, 8-Pin SO, 0 to 70 degC; DatasheetVersion: 10-Feb-2008; PackageVersion: revC, 2010; PackageReference: S8-2; PackageDescription: 8-Pin Small-Outline IC, Narrow (0.15in), 1.27 mm Pitch, SOIC (N); Code_JEDEC: MS-012-AA; Code_IPC: SOIC127P600-8; ComponentLink1Description: Manufacturer URL; ComponentLink1URL: http://www.maxim-ic.com; ComponentLink2Description: Datasheet; ComponentLink2URL: http://datasheets.maxim-ic.com/en/ds/DS1307.pdf; ComponentLink3Description: Package Specification; ComponentLink3URL: http://pdfserv.maxim-ic.com/package_dwgs/21-0041.PDF
footprint S8-2_N (SOIC, 8-Leads, Body 4.9x3.9mm, Pitch 1.27mm, IPC Medium Density)
footprint S8-2_L (SOIC, 8-Leads, Body 4.9x3.9mm, Pitch 1.27mm, IPC High Density)
footprint S8-2_M (SOIC, 8-Leads, Body 4.9x3.9mm, Pitch 1.27mm, IPC Low Density)
pins: 1 X1, 2 X2, 3 VBAT (power), 4 GND (power), 5 SDA (io), 6 SCL (in), 7 SQW/OUT (oc), 8 VCC (power)

## DS1307Z+
designator U?
64 x 8, Serial, I2C Real-Time Clock, 5.0V, 8-Pin SO, 0 to 70 degC, Pb-Free; DatasheetVersion: 10-Feb-2008; PackageVersion: revC, 2010; PackageReference: S8+2; PackageDescription: 8-Pin Small-Outline IC, Narrow (0.15in), 1.27 mm Pitch, SOIC (N), Pb-Free; Code_JEDEC: MS-012-AA; Code_IPC: SOIC127P600-8; ComponentLink1Description: Manufacturer URL; ComponentLink1URL: http://www.maxim-ic.com; ComponentLink2Description: Datasheet; ComponentLink2URL: http://datasheets.maxim-ic.com/en/ds/DS1307.pdf; ComponentLink3Description: Package Specification; ComponentLink3URL: http://pdfserv.maxim-ic.com/package_dwgs/21-0041.PDF
footprint S8+2_N (SOIC, 8-Leads, Body 4.9x3.9mm, Pitch 1.27mm, IPC Medium Density)
footprint S8+2_L (SOIC, 8-Leads, Body 4.9x3.9mm, Pitch 1.27mm, IPC High Density)
footprint S8+2_M (SOIC, 8-Leads, Body 4.9x3.9mm, Pitch 1.27mm, IPC Low Density)
pins: 1 X1, 2 X2, 3 VBAT (power), 4 GND (power), 5 SDA (io), 6 SCL (in), 7 SQW/OUT (oc), 8 VCC (power)

## DS1307Z+T&R
designator U?
64 x 8, Serial, I2C Real-Time Clock, 5.0V, 8-Pin SO, 0 to 70 degC, Pb-Free, Reel; DatasheetVersion: 10-Feb-2008; PackageVersion: revC, 2010; PackageReference: S8+2; PackageDescription: 8-Pin Small-Outline IC, Narrow (0.15in), 1.27 mm Pitch, SOIC (N), Pb-Free; Code_JEDEC: MS-012-AA; Code_IPC: SOIC127P600-8; ComponentLink1Description: Manufacturer URL; ComponentLink1URL: http://www.maxim-ic.com; ComponentLink2Description: Datasheet; ComponentLink2URL: http://datasheets.maxim-ic.com/en/ds/DS1307.pdf; ComponentLink3Description: Package Specification; ComponentLink3URL: http://pdfserv.maxim-ic.com/package_dwgs/21-0041.PDF
footprint S8+2_N (SOIC, 8-Leads, Body 4.9x3.9mm, Pitch 1.27mm, IPC Medium Density)
footprint S8+2_L (SOIC, 8-Leads, Body 4.9x3.9mm, Pitch 1.27mm, IPC High Density)
footprint S8+2_M (SOIC, 8-Leads, Body 4.9x3.9mm, Pitch 1.27mm, IPC Low Density)
pins: 1 X1, 2 X2, 3 VBAT (power), 4 GND (power), 5 SDA (io), 6 SCL (in), 7 SQW/OUT (oc), 8 VCC (power)

## DS1307Z+T&R/C01
designator U?
64 x 8, Serial, I2C Real-Time Clock, 5.0V, 8-Pin SO, 0 to 70 degC, Pb-Free, Reel; DatasheetVersion: 10-Feb-2008; PackageVersion: revC, 2010; PackageReference: S8+2; PackageDescription: 8-Pin Small-Outline IC, Narrow (0.15in), 1.27 mm Pitch, SOIC (N), Pb-Free; Code_JEDEC: MS-012-AA; Code_IPC: SOIC127P600-8; ComponentLink1Description: Manufacturer URL; ComponentLink1URL: http://www.maxim-ic.com; ComponentLink2Description: Datasheet; ComponentLink2URL: http://datasheets.maxim-ic.com/en/ds/DS1307.pdf; ComponentLink3Description: Package Specification; ComponentLink3URL: http://pdfserv.maxim-ic.com/package_dwgs/21-0041.PDF
footprint S8+2_N (SOIC, 8-Leads, Body 4.9x3.9mm, Pitch 1.27mm, IPC Medium Density)
footprint S8+2_L (SOIC, 8-Leads, Body 4.9x3.9mm, Pitch 1.27mm, IPC High Density)
footprint S8+2_M (SOIC, 8-Leads, Body 4.9x3.9mm, Pitch 1.27mm, IPC Low Density)
pins: 1 X1, 2 X2, 3 VBAT (power), 4 GND (power), 5 SDA (io), 6 SCL (in), 7 SQW/OUT (oc), 8 VCC (power)

## DS1307Z/T&R
designator U?
64 x 8, Serial, I2C Real-Time Clock, 5.0V, 8-Pin SO, 0 to 70 degC, Reel; DatasheetVersion: 10-Feb-2008; PackageVersion: revC, 2010; PackageReference: S8-2; PackageDescription: 8-Pin Small-Outline IC, Narrow (0.15in), 1.27 mm Pitch, SOIC (N); Code_JEDEC: MS-012-AA; Code_IPC: SOIC127P600-8; ComponentLink1Description: Manufacturer URL; ComponentLink1URL: http://www.maxim-ic.com; ComponentLink2Description: Datasheet; ComponentLink2URL: http://datasheets.maxim-ic.com/en/ds/DS1307.pdf; ComponentLink3Description: Package Specification; ComponentLink3URL: http://pdfserv.maxim-ic.com/package_dwgs/21-0041.PDF
footprint S8-2_N (SOIC, 8-Leads, Body 4.9x3.9mm, Pitch 1.27mm, IPC Medium Density)
footprint S8-2_L (SOIC, 8-Leads, Body 4.9x3.9mm, Pitch 1.27mm, IPC High Density)
footprint S8-2_M (SOIC, 8-Leads, Body 4.9x3.9mm, Pitch 1.27mm, IPC Low Density)
pins: 1 X1, 2 X2, 3 VBAT (power), 4 GND (power), 5 SDA (io), 6 SCL (in), 7 SQW/OUT (oc), 8 VCC (power)

## DS1307ZN
designator U?
64 x 8, Serial, I2C Real-Time Clock, 5.0V, 8-Pin SO, -40 to 85 degC; DatasheetVersion: 10-Feb-2008; PackageVersion: revC, 2010; PackageReference: S8-2; PackageDescription: 8-Pin Small-Outline IC, Narrow (0.15in), 1.27 mm Pitch, SOIC (N); Code_JEDEC: MS-012-AA; Code_IPC: SOIC127P600-8; ComponentLink1Description: Manufacturer URL; ComponentLink1URL: http://www.maxim-ic.com; ComponentLink2Description: Datasheet; ComponentLink2URL: http://datasheets.maxim-ic.com/en/ds/DS1307.pdf; ComponentLink3Description: Package Specification; ComponentLink3URL: http://pdfserv.maxim-ic.com/package_dwgs/21-0041.PDF
footprint S8-2_N (SOIC, 8-Leads, Body 4.9x3.9mm, Pitch 1.27mm, IPC Medium Density)
footprint S8-2_L (SOIC, 8-Leads, Body 4.9x3.9mm, Pitch 1.27mm, IPC High Density)
footprint S8-2_M (SOIC, 8-Leads, Body 4.9x3.9mm, Pitch 1.27mm, IPC Low Density)
pins: 1 X1, 2 X2, 3 VBAT (power), 4 GND (power), 5 SDA (io), 6 SCL (in), 7 SQW/OUT (oc), 8 VCC (power)

## DS1307ZN+
designator U?
64 x 8, Serial, I2C Real-Time Clock, 5.0V, 8-Pin SO, -40 to 85 degC, Pb-Free; DatasheetVersion: 10-Feb-2008; PackageVersion: revC, 2010; PackageReference: S8+2; PackageDescription: 8-Pin Small-Outline IC, Narrow (0.15in), 1.27 mm Pitch, SOIC (N), Pb-Free; Code_JEDEC: MS-012-AA; Code_IPC: SOIC127P600-8; ComponentLink1Description: Manufacturer URL; ComponentLink1URL: http://www.maxim-ic.com; ComponentLink2Description: Datasheet; ComponentLink2URL: http://datasheets.maxim-ic.com/en/ds/DS1307.pdf; ComponentLink3Description: Package Specification; ComponentLink3URL: http://pdfserv.maxim-ic.com/package_dwgs/21-0041.PDF
footprint S8+2_N (SOIC, 8-Leads, Body 4.9x3.9mm, Pitch 1.27mm, IPC Medium Density)
footprint S8+2_L (SOIC, 8-Leads, Body 4.9x3.9mm, Pitch 1.27mm, IPC High Density)
footprint S8+2_M (SOIC, 8-Leads, Body 4.9x3.9mm, Pitch 1.27mm, IPC Low Density)
pins: 1 X1, 2 X2, 3 VBAT (power), 4 GND (power), 5 SDA (io), 6 SCL (in), 7 SQW/OUT (oc), 8 VCC (power)

## DS1307ZN+T&R
designator U?
64 x 8, Serial, I2C Real-Time Clock, 5.0V, 8-Pin SO, -40 to 85 degC, Pb-Free, Reel; DatasheetVersion: 10-Feb-2008; PackageVersion: revC, 2010; PackageReference: S8+2; PackageDescription: 8-Pin Small-Outline IC, Narrow (0.15in), 1.27 mm Pitch, SOIC (N), Pb-Free; Code_JEDEC: MS-012-AA; Code_IPC: SOIC127P600-8; ComponentLink1Description: Manufacturer URL; ComponentLink1URL: http://www.maxim-ic.com; ComponentLink2Description: Datasheet; ComponentLink2URL: http://datasheets.maxim-ic.com/en/ds/DS1307.pdf; ComponentLink3Description: Package Specification; ComponentLink3URL: http://pdfserv.maxim-ic.com/package_dwgs/21-0041.PDF
footprint S8+2_N (SOIC, 8-Leads, Body 4.9x3.9mm, Pitch 1.27mm, IPC Medium Density)
footprint S8+2_L (SOIC, 8-Leads, Body 4.9x3.9mm, Pitch 1.27mm, IPC High Density)
footprint S8+2_M (SOIC, 8-Leads, Body 4.9x3.9mm, Pitch 1.27mm, IPC Low Density)
pins: 1 X1, 2 X2, 3 VBAT (power), 4 GND (power), 5 SDA (io), 6 SCL (in), 7 SQW/OUT (oc), 8 VCC (power)

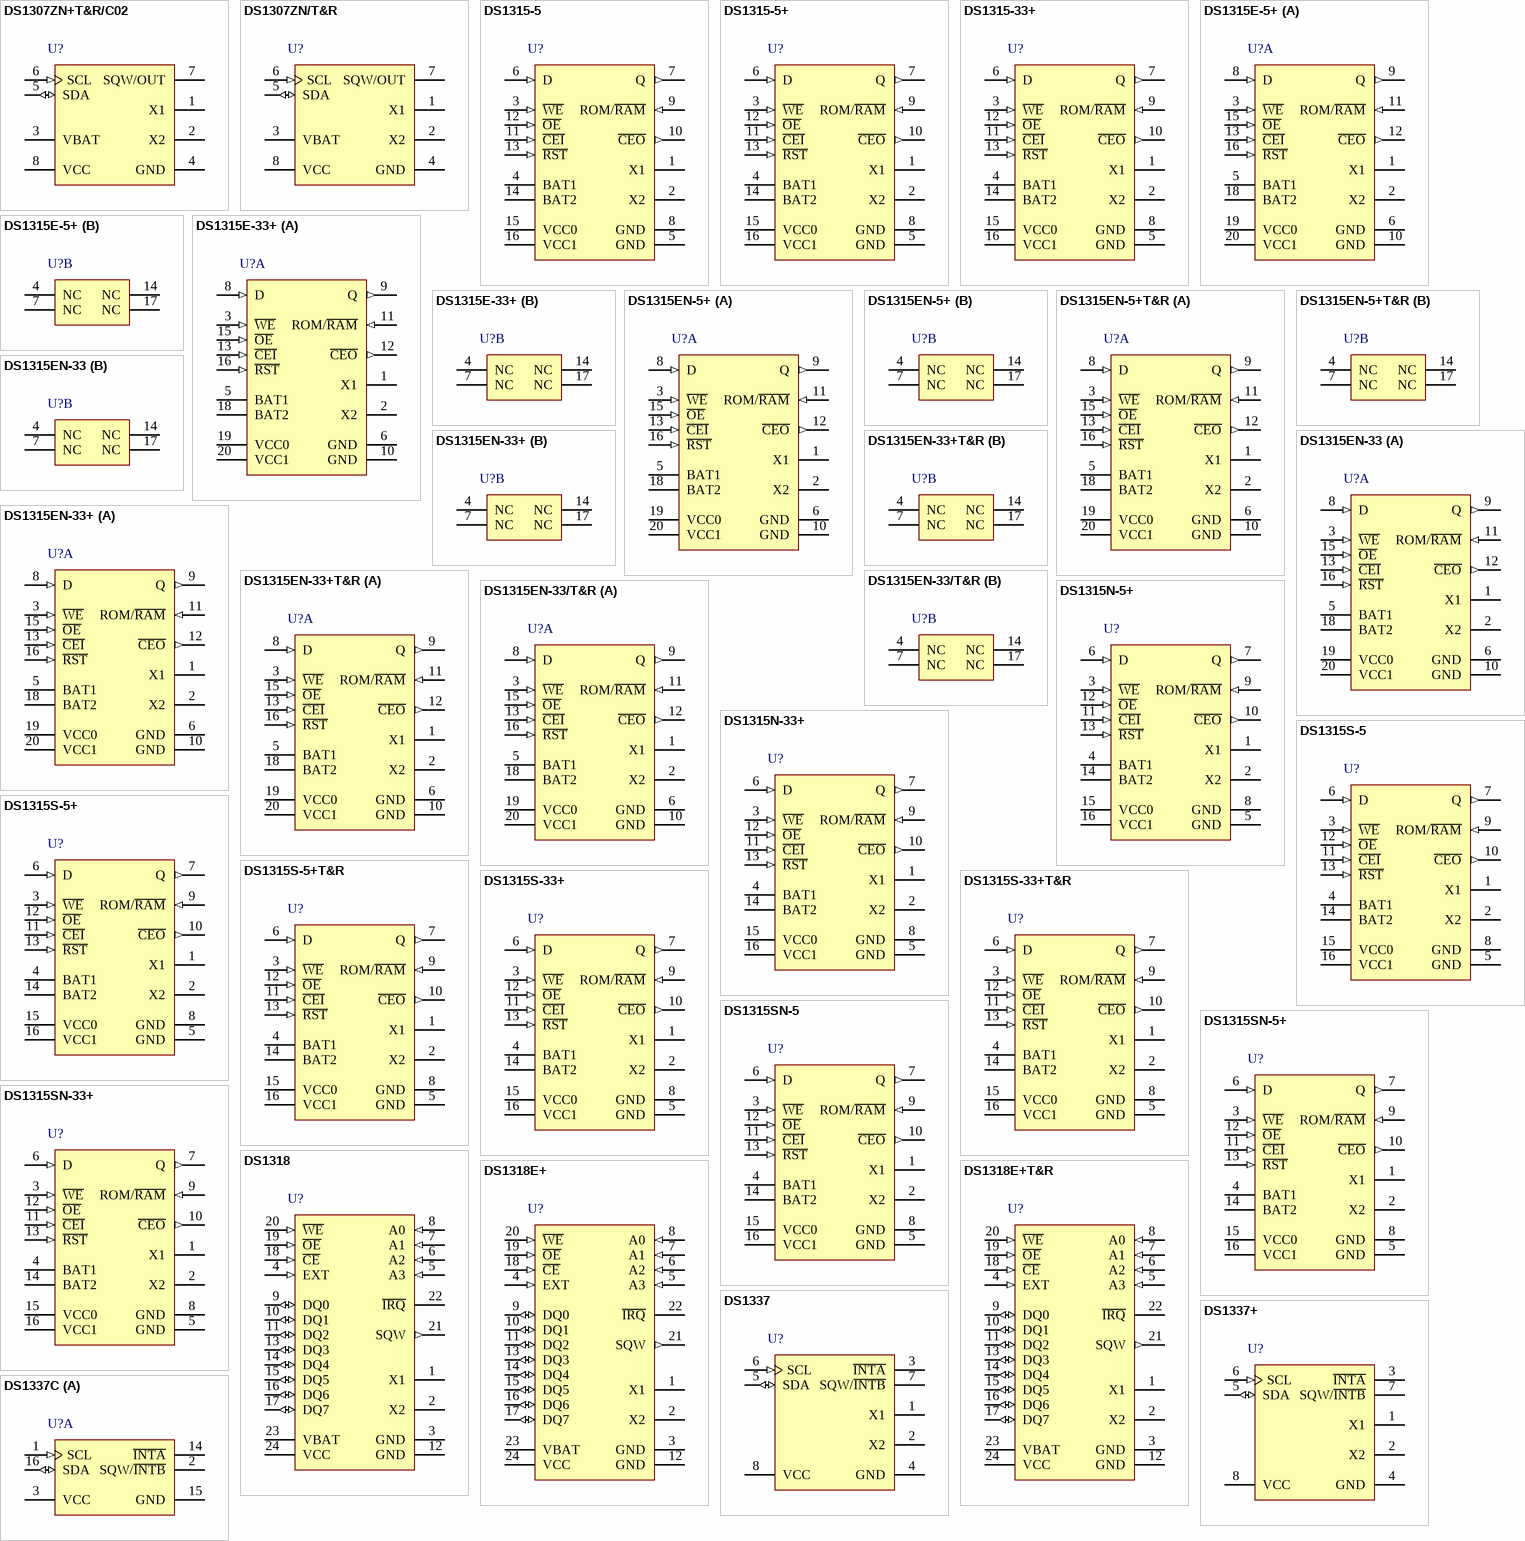
[diagram p3: symbols DS1307ZN+T&R/C02 to DS1337C]

## DS1307ZN+T&R/C02
designator U?
64 x 8, Serial, I2C Real-Time Clock, 5.0V, 8-Pin SO, -40 to 85 degC, Pb-Free, Reel; DatasheetVersion: 10-Feb-2008; PackageVersion: revC, 2010; PackageReference: S8+2; PackageDescription: 8-Pin Small-Outline IC, Narrow (0.15in), 1.27 mm Pitch, SOIC (N), Pb-Free; Code_JEDEC: MS-012-AA; Code_IPC: SOIC127P600-8; ComponentLink1Description: Manufacturer URL; ComponentLink1URL: http://www.maxim-ic.com; ComponentLink2Description: Datasheet; ComponentLink2URL: http://datasheets.maxim-ic.com/en/ds/DS1307.pdf; ComponentLink3Description: Package Specification; ComponentLink3URL: http://pdfserv.maxim-ic.com/package_dwgs/21-0041.PDF
footprint S8+2_N (SOIC, 8-Leads, Body 4.9x3.9mm, Pitch 1.27mm, IPC Medium Density)
footprint S8+2_L (SOIC, 8-Leads, Body 4.9x3.9mm, Pitch 1.27mm, IPC High Density)
footprint S8+2_M (SOIC, 8-Leads, Body 4.9x3.9mm, Pitch 1.27mm, IPC Low Density)
pins: 1 X1, 2 X2, 3 VBAT (power), 4 GND (power), 5 SDA (io), 6 SCL (in), 7 SQW/OUT (oc), 8 VCC (power)

## DS1307ZN/T&R
designator U?
64 x 8, Serial, I2C Real-Time Clock, 5.0V, 8-Pin SO, -40 to 85 degC, Reel; DatasheetVersion: 10-Feb-2008; PackageVersion: revC, 2010; PackageReference: S8-2; PackageDescription: 8-Pin Small-Outline IC, Narrow (0.15in), 1.27 mm Pitch, SOIC (N); Code_JEDEC: MS-012-AA; Code_IPC: SOIC127P600-8; ComponentLink1Description: Manufacturer URL; ComponentLink1URL: http://www.maxim-ic.com; ComponentLink2Description: Datasheet; ComponentLink2URL: http://datasheets.maxim-ic.com/en/ds/DS1307.pdf; ComponentLink3Description: Package Specification; ComponentLink3URL: http://pdfserv.maxim-ic.com/package_dwgs/21-0041.PDF
footprint S8-2_N (SOIC, 8-Leads, Body 4.9x3.9mm, Pitch 1.27mm, IPC Medium Density)
footprint S8-2_L (SOIC, 8-Leads, Body 4.9x3.9mm, Pitch 1.27mm, IPC High Density)
footprint S8-2_M (SOIC, 8-Leads, Body 4.9x3.9mm, Pitch 1.27mm, IPC Low Density)
pins: 1 X1, 2 X2, 3 VBAT (power), 4 GND (power), 5 SDA (io), 6 SCL (in), 7 SQW/OUT (oc), 8 VCC (power)

## DS1315-5
designator U?
Phantom Time Chip, NV SRAM Control, 5.0V, 16-Pin PDIP, 0 to 70 degC; DatasheetVersion: Nov-2011; PackageVersion: revE, 2011; PackageReference: P16-1; PackageDescription: 16-Pin Plastic Dual-In-Line, Narrow (0.3in), Pitch 2.54 mm, PDIP(N); Code_JEDEC: MS-001-AA; ComponentLink1Description: Manufacturer URL; ComponentLink1URL: http://www.maxim-ic.com; ComponentLink2Description: Datasheet; ComponentLink2URL: http://datasheets.maxim-ic.com/en/ds/DS1315.pdf; ComponentLink3Description: Package Specification; ComponentLink3URL: http://pdfserv.maxim-ic.com/package_dwgs/21-0043.PDF
footprint P16-1 (DIP, 16-Leads, Row Spacing 7.62mm, Pitch 2.54mm, Body 19.2x7mm)
pins: 1 X1, 2 X2, 3 ~{WE} (in), 4 BAT1 (power), 5 GND (power), 6 D (in), 7 Q (out), 8 GND (power), 9 ROM/~{RAM} (in), 10 ~{CEO} (out), 11 ~{CEI} (in), 12 ~{OE} (in), 13 ~{RST} (in), 14 BAT2 (power), 15 VCC0 (power), 16 VCC1 (power)

## DS1315-5+
designator U?
Phantom Time Chip, NV SRAM Control, 5.0V, 16-Pin PDIP, 0 to 70 degC, Pb-Free; DatasheetVersion: Nov-2011; PackageVersion: revE, 2011; PackageReference: P16+1; PackageDescription: 16-Pin Plastic Dual-In-Line, Narrow (0.3in), Pitch 2.54 mm, PDIP(N), Pb-Free; Code_JEDEC: MS-001-AA; ComponentLink1Description: Manufacturer URL; ComponentLink1URL: http://www.maxim-ic.com; ComponentLink2Description: Datasheet; ComponentLink2URL: http://datasheets.maxim-ic.com/en/ds/DS1315.pdf; ComponentLink3Description: Package Specification; ComponentLink3URL: http://pdfserv.maxim-ic.com/package_dwgs/21-0043.PDF
footprint P16+1 (DIP, 16-Leads, Row Spacing 7.62mm, Pitch 2.54mm, Body 19.2x7mm)
pins: 1 X1, 2 X2, 3 ~{WE} (in), 4 BAT1 (power), 5 GND (power), 6 D (in), 7 Q (out), 8 GND (power), 9 ROM/~{RAM} (in), 10 ~{CEO} (out), 11 ~{CEI} (in), 12 ~{OE} (in), 13 ~{RST} (in), 14 BAT2 (power), 15 VCC0 (power), 16 VCC1 (power)

## DS1315-33+
designator U?
Phantom Time Chip, NV SRAM Control, 3.3V, 16-Pin PDIP, 0 to 70 degC, Pb-Free; DatasheetVersion: Nov-2011; PackageVersion: revE, 2011; PackageReference: P16+1; PackageDescription: 16-Pin Plastic Dual-In-Line, Narrow (0.3in), Pitch 2.54 mm, PDIP(N), Pb-Free; Code_JEDEC: MS-001-AA; ComponentLink1Description: Manufacturer URL; ComponentLink1URL: http://www.maxim-ic.com; ComponentLink2Description: Datasheet; ComponentLink2URL: http://datasheets.maxim-ic.com/en/ds/DS1315.pdf; ComponentLink3Description: Package Specification; ComponentLink3URL: http://pdfserv.maxim-ic.com/package_dwgs/21-0043.PDF
footprint P16+1 (DIP, 16-Leads, Row Spacing 7.62mm, Pitch 2.54mm, Body 19.2x7mm)
pins: 1 X1, 2 X2, 3 ~{WE} (in), 4 BAT1 (power), 5 GND (power), 6 D (in), 7 Q (out), 8 GND (power), 9 ROM/~{RAM} (in), 10 ~{CEO} (out), 11 ~{CEI} (in), 12 ~{OE} (in), 13 ~{RST} (in), 14 BAT2 (power), 15 VCC0 (power), 16 VCC1 (power)

## DS1315E-5+
designator U?
Phantom Time Chip, NV SRAM Control, 5.0V, 20-Pin TSSOP, 0 to 70 degC, Pb-Free; DatasheetVersion: Nov-2011; PackageVersion: revL, 2010; PackageReference: U20+1; PackageDescription: 20-Pin Thin Shrink Small-Outline Package, 4.4 mm Body, TSSOP, Pb-Free; Code_JEDEC: MO-153-AC; ComponentLink1Description: Manufacturer URL; ComponentLink1URL: http://www.maxim-ic.com; ComponentLink2Description: Datasheet; ComponentLink2URL: http://datasheets.maxim-ic.com/en/ds/DS1315.pdf; ComponentLink3Description: Package Specification; ComponentLink3URL: http://pdfserv.maxim-ic.com/package_dwgs/21-0066.PDF
footprint U20+1_N (TSOP, 20-Leads, Body 6.5x4.4mm, Pitch 0.65mm, IPC Medium Density)
footprint U20+1_L (TSOP, 20-Leads, Body 6.5x4.4mm, Pitch 0.65mm, IPC High Density)
footprint U20+1_M (TSOP, 20-Leads, Body 6.5x4.4mm, Pitch 0.65mm, IPC Low Density)
part A pins: 1 X1, 2 X2, 3 ~{WE} (in), 5 BAT1 (power), 6 GND (power), 8 D (in), 9 Q (out), 10 GND (power), 11 ROM/~{RAM} (in), 12 ~{CEO} (out), 13 ~{CEI} (in), 15 ~{OE} (in), 16 ~{RST} (in), 18 BAT2 (power), 19 VCC0 (power), 20 VCC1 (power)
part B pins: 4 NC, 7 NC, 14 NC, 17 NC

## DS1315E-33+
designator U?
Phantom Time Chip, NV SRAM Control, 3.3V, 20-Pin TSSOP, 0 to 70 degC, Pb-Free; DatasheetVersion: Nov-2011; PackageVersion: revL, 2010; PackageReference: U20+1; PackageDescription: 20-Pin Thin Shrink Small-Outline Package, 4.4 mm Body, TSSOP, Pb-Free; Code_JEDEC: MO-153-AC; ComponentLink1Description: Manufacturer URL; ComponentLink1URL: http://www.maxim-ic.com; ComponentLink2Description: Datasheet; ComponentLink2URL: http://datasheets.maxim-ic.com/en/ds/DS1315.pdf; ComponentLink3Description: Package Specification; ComponentLink3URL: http://pdfserv.maxim-ic.com/package_dwgs/21-0066.PDF
footprint U20+1_N (TSOP, 20-Leads, Body 6.5x4.4mm, Pitch 0.65mm, IPC Medium Density)
footprint U20+1_L (TSOP, 20-Leads, Body 6.5x4.4mm, Pitch 0.65mm, IPC High Density)
footprint U20+1_M (TSOP, 20-Leads, Body 6.5x4.4mm, Pitch 0.65mm, IPC Low Density)
part A pins: 1 X1, 2 X2, 3 ~{WE} (in), 5 BAT1 (power), 6 GND (power), 8 D (in), 9 Q (out), 10 GND (power), 11 ROM/~{RAM} (in), 12 ~{CEO} (out), 13 ~{CEI} (in), 15 ~{OE} (in), 16 ~{RST} (in), 18 BAT2 (power), 19 VCC0 (power), 20 VCC1 (power)
part B pins: 4 NC, 7 NC, 14 NC, 17 NC

## DS1315EN-5+
designator U?
Phantom Time Chip, NV SRAM Control, 5.0V, 20-Pin TSSOP, -40 to 85 degC, Pb-Free; DatasheetVersion: Nov-2011; PackageVersion: revL, 2010; PackageReference: U20+1; PackageDescription: 20-Pin Thin Shrink Small-Outline Package, 4.4 mm Body, TSSOP, Pb-Free; Code_JEDEC: MO-153-AC; ComponentLink1Description: Manufacturer URL; ComponentLink1URL: http://www.maxim-ic.com; ComponentLink2Description: Datasheet; ComponentLink2URL: http://datasheets.maxim-ic.com/en/ds/DS1315.pdf; ComponentLink3Description: Package Specification; ComponentLink3URL: http://pdfserv.maxim-ic.com/package_dwgs/21-0066.PDF
footprint U20+1_N (TSOP, 20-Leads, Body 6.5x4.4mm, Pitch 0.65mm, IPC Medium Density)
footprint U20+1_L (TSOP, 20-Leads, Body 6.5x4.4mm, Pitch 0.65mm, IPC High Density)
footprint U20+1_M (TSOP, 20-Leads, Body 6.5x4.4mm, Pitch 0.65mm, IPC Low Density)
part A pins: 1 X1, 2 X2, 3 ~{WE} (in), 5 BAT1 (power), 6 GND (power), 8 D (in), 9 Q (out), 10 GND (power), 11 ROM/~{RAM} (in), 12 ~{CEO} (out), 13 ~{CEI} (in), 15 ~{OE} (in), 16 ~{RST} (in), 18 BAT2 (power), 19 VCC0 (power), 20 VCC1 (power)
part B pins: 4 NC, 7 NC, 14 NC, 17 NC

## DS1315EN-5+T&R
designator U?
Phantom Time Chip, NV SRAM Control, 5.0V, 20-Pin TSSOP, -40 to 85 degC, Pb-Free, Reel; DatasheetVersion: Nov-2011; PackageVersion: revL, 2010; PackageReference: U20+1; PackageDescription: 20-Pin Thin Shrink Small-Outline Package, 4.4 mm Body, TSSOP, Pb-Free; Code_JEDEC: MO-153-AC; ComponentLink1Description: Manufacturer URL; ComponentLink1URL: http://www.maxim-ic.com; ComponentLink2Description: Datasheet; ComponentLink2URL: http://datasheets.maxim-ic.com/en/ds/DS1315.pdf; ComponentLink3Description: Package Specification; ComponentLink3URL: http://pdfserv.maxim-ic.com/package_dwgs/21-0066.PDF
footprint U20+1_N (TSOP, 20-Leads, Body 6.5x4.4mm, Pitch 0.65mm, IPC Medium Density)
footprint U20+1_L (TSOP, 20-Leads, Body 6.5x4.4mm, Pitch 0.65mm, IPC High Density)
footprint U20+1_M (TSOP, 20-Leads, Body 6.5x4.4mm, Pitch 0.65mm, IPC Low Density)
part A pins: 1 X1, 2 X2, 3 ~{WE} (in), 5 BAT1 (power), 6 GND (power), 8 D (in), 9 Q (out), 10 GND (power), 11 ROM/~{RAM} (in), 12 ~{CEO} (out), 13 ~{CEI} (in), 15 ~{OE} (in), 16 ~{RST} (in), 18 BAT2 (power), 19 VCC0 (power), 20 VCC1 (power)
part B pins: 4 NC, 7 NC, 14 NC, 17 NC